# Altium footprint library pcb_lcee.PcbLib: 46 footprints (part 1 of 3)
Each footprint in its own frame and in the unit in brackets; x right, y up, seen from the top. Pads: shape width x height; smd on the part's side, far side on the other; paste and mask are expansions set on the pad; w line width, h text height; cw(c..) or ccw(c..) is an arc to the next point about the centre after c.
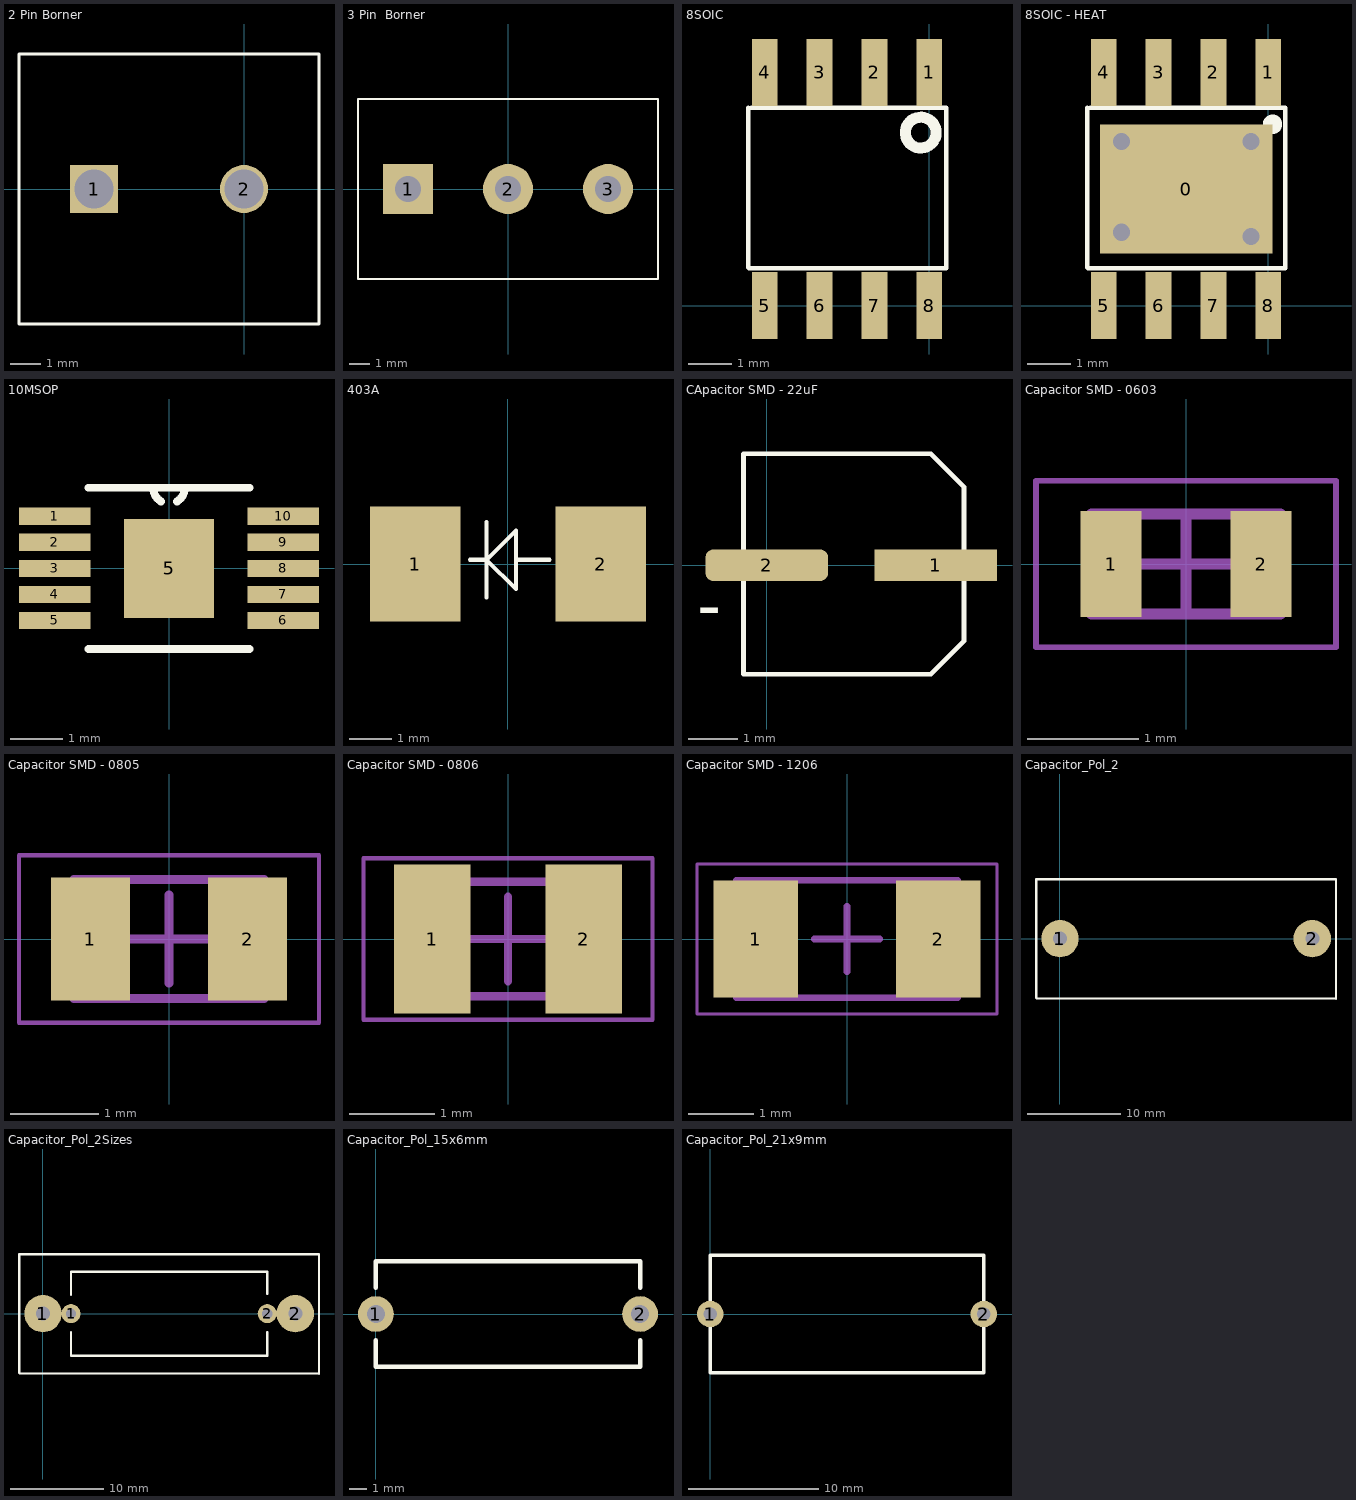
[diagram p0: the footprints below, top view; thin cyan lines are the x and y axes]

## 2 Pin Borner [mm]
pads (2):
  rect 1.6x1.6 hole 1.3 mask+0.05: 1(-5,0)
  round 1.6 hole 1.3 mask+0.05: 2(0,0)
Top Overlay:
  lines w0.1: -7.5,-4.5 2.5,-4.5 2.5,4.5 -7.5,4.5 -7.5,-4.5

## 3 Pin  Borner [mm]
pads (3):
  rect 2.5x2.5 hole 1.3 mask+0.05: 1(-5,0)
  round 2.5 hole 1.3 mask+0.05: 2(0,0) 3(5,0)
Top Overlay:
  lines w0.1: -7.5,-4.5 7.02,-4.5 7.5,-4.5 7.5,4.5 7,4.5 -7.5,4.5 -7.5,-4.5

## 8SOIC [mm] "SI841"
pads (8):
  rect 0.6x1.55 smd: 1(0,5.4) 2(-1.27,5.4) 3(-2.54,5.4) 4(-3.81,5.4) 5(-3.81,0) 6(-2.54,0) 7(-1.27,0) 8(0,0)
Top Overlay:
  circle w0.254: c-0.197,4.006 r0.358
  lines w0.1: -4.192,4.579 -4.192,0.88 -4.174,0.863 0.394,0.863 ; -4.122,4.579 0.394,4.579 0.394,0.863 ; 0.394,0.863 0.394,0.863

## 8SOIC - HEAT [mm] "SI841"
pads (9):
  rect 4x3 smd mask+0.05: 0(-1.9,2.7)
  rect 0.6x1.55 smd: 1(0,5.4) 2(-1.27,5.4) 3(-2.54,5.4) 4(-3.81,5.4) 5(-3.81,0) 6(-2.54,0) 7(-1.27,0) 8(0,0)
via -0.4,1.6 diameter 0.6 hole 0.4
via -0.4,3.8 diameter 0.6 hole 0.4
via -3.4,3.8 diameter 0.6 hole 0.4
via -3.4,1.7 diameter 0.6 hole 0.4
Top Overlay:
  circle w0.254: c0.1,4.2 r0.097
  lines w0.1: -4.192,4.579 -4.192,0.88 -4.174,0.863 0.394,0.863 ; -4.122,4.579 0.394,4.579 0.394,0.863 ; 0.394,0.863 0.394,0.863

## 10MSOP [mil]
pads (11):
  rect 54x13 smd: 1(-86.5,39.4) 2(-86.5,19.7) 3(-86.5,0) 4(-86.5,-19.7) 5(-86.5,-39.4) 6(86.5,-39.4) 7(86.5,-19.7) 8(86.5,0) 9(86.5,19.7) 10(86.5,39.4)
  rect 68x75 smd: 5(0,0)
Top Overlay:
  lines w6: -61,-61 61,-61 ; -61,61 61,61 ; -12,61 ccw(c0,61) -5.99,50.6 ; 5.99,50.6 ccw(c0,61) 12,61

## 16SOIC [mm]

## 403A [mm] "DIODE SCHOTTKY 60V 2A SMB Serve pras duas footprints"
pads (2):
  rect 2.159x2.74 smd mask+0.05: 1(-2.21,0) 2(2.21,0)
Top Overlay:
  lines w0.1: -0.91,0.1 -0.51,0.1 ; -0.51,-0.8 -0.51,1 ; -0.51,-0.1 -0.51,0.1 ; 0.19,0.1 0.99,0.1 ; -0.51,0.1 0.19,0.8 0.19,-0.6 -0.51,0.1

## CApacitor SMD - 22uF [mm]
pads (2):
  rect 2.5x0.65 smd: 1(3.45,0)
  rrect50% 2.5x0.65 smd: 2(0,0)
Top Overlay:
  lines w0.1: 4.025,-1.55 4.025,1.6 3.35,2.275 -0.475,2.275 -0.475,-2.225 3.35,-2.225 4.025,-1.55
  text "-" at -1.425,-1.3 h1

## Capacitor SMD - 0603 [mm] "0603"
height 0.9
pads (2):
  rect 0.55x0.95 smd: 1(-0.675,0) 2(0.675,0)
Mechanical 13:
  lines w0.1: -0.85,-0.45 -0.85,0.45 0.85,0.45 0.85,-0.45 -0.85,-0.45
Mechanical 15:
  lines w0.05: -1.35,-0.75 -1.35,0.75 1.35,0.75 1.35,-0.75 -1.35,-0.75
  lines w0.1: -0.45,0 0.45,0 ; 0,-0.45 0,0.45
3D body: height 0.9, standoff 0, extent -0.5,-0.45 0.5,0.45
3D body: height 0.9, standoff 0, extent -0.85,-0.45 -0.5,0.45
3D body: height 0.9, standoff 0, extent 0.5,-0.45 0.85,0.45

## Capacitor SMD - 0805 [mm] "0805"
height 0.55
pads (2):
  rect 0.9x1.39 smd: 1(-0.89,0) 2(0.89,0)
Mechanical 13:
  lines w0.1: -1.075,-0.675 -1.075,0.675 1.075,0.675 1.075,-0.675 -1.075,-0.675
Mechanical 15:
  lines w0.05: -1.7,-0.95 -1.7,0.95 1.7,0.95 1.7,-0.95 -1.7,-0.95
  lines w0.1: -0.5,0 0.5,0 ; 0,-0.5 0,0.5
3D body: height 0.55, standoff 0, extent -0.575,-0.675 0.575,0.675
3D body: height 0.55, standoff 0, extent -1.075,-0.675 -0.575,0.675
3D body: height 0.55, standoff 0, extent 0.575,-0.675 1.075,0.675

## Capacitor SMD - 0806 [mm] "0806 - Soldar"
height 0.55
pads (2):
  rect 0.9x1.75 smd: 1(-0.89,0) 2(0.89,0)
Mechanical 13:
  lines w0.1: -1.075,-0.675 -1.075,0.675 1.075,0.675 1.075,-0.675 -1.075,-0.675
Mechanical 15:
  lines w0.05: -1.7,-0.95 -1.7,0.95 1.7,0.95 1.7,-0.95 -1.7,-0.95
  lines w0.1: -0.5,0 0.5,0 ; 0,-0.5 0,0.5
3D body: height 0.55, standoff 0, extent -0.575,-0.675 0.575,0.675
3D body: height 0.55, standoff 0, extent -1.075,-0.675 -0.575,0.675
3D body: height 0.55, standoff 0, extent 0.575,-0.675 1.075,0.675

## Capacitor SMD - 1206 [mm] "1206"
height 0.94
pads (2):
  rect 1.3x1.8 smd: 1(-1.4,0) 2(1.4,0)
Mechanical 13:
  lines w0.1: -1.7,-0.9 -1.7,0.9 1.7,0.9 1.7,-0.9 -1.7,-0.9
Mechanical 15:
  lines w0.05: -2.3,-1.15 -2.3,1.15 2.3,1.15 2.3,-1.15 -2.3,-1.15
  lines w0.1: -0.5,0 0.5,0 ; 0,-0.5 0,0.5
3D body: height 0.94, standoff 0, extent -1.2,-0.9 1.2,0.9
3D body: height 0.94, standoff 0, extent -1.7,-0.9 -1.2,0.9
3D body: height 0.94, standoff 0, extent 1.2,-0.9 1.7,0.9

## Capacitor_Pol_2 [mm]
pads (2):
  round 4 hole 1.5: 1(0,0) 2(27,0)
Top Overlay:
  lines w0.254: -2.565,6.35 29.54,6.35 29.54,-6.35 ; -2.54,-6.35 -2.54,6.35 ; -2.515,-6.401 29.54,-6.426

## Capacitor_Pol_2Sizes [mm]
pads (4):
  round 4 hole 1.5: 1(0,0) 2(27,0)
  round 2.032 hole 1.1: 1(3,0) 2(24,0)
Top Overlay:
  lines w0.254: -2.565,6.35 29.54,6.35 29.54,-6.35 ; -2.54,-6.35 -2.54,6.35 ; -2.515,-6.401 29.54,-6.426 ; 3,-2 3,-4.5 24,-4.5 24,-2 ; 3,2 3,4.5 24,4.5 24,2.1
3D body: height 14, standoff 0, extent 2.873,-4.627 24.127,4.627

## Capacitor_Pol_15x6mm [mil]
pads (2):
  round 80 hole 40: 1(0,0) 2(590.55,0)
Top Overlay:
  lines w10: 0,-59.06 0,-118.11 590.55,-118.11 590.55,-59.06 ; 0,59.06 0,118.11 590.55,118.11 590.55,59.06
3D body: height 334.65, standoff 19.68, extent 0.02,-118.09 590.53,118.09

## Capacitor_Pol_21x9mm [mil]
pads (2):
  round 80 hole 40: 1(0,0) 2(826.77,0)
Top Overlay:
  lines w10: 0,-177.17 826.77,-177.17 826.77,177.17 0,177.17 0,-177.17
3D body: height 551.18, standoff 0, extent -5,-182.17 831.77,182.17